# Altium schematic symbol library Resistors.SchLib: 18 symbols
Pins are listed as number, name and electrical type; pins without a type are passive.

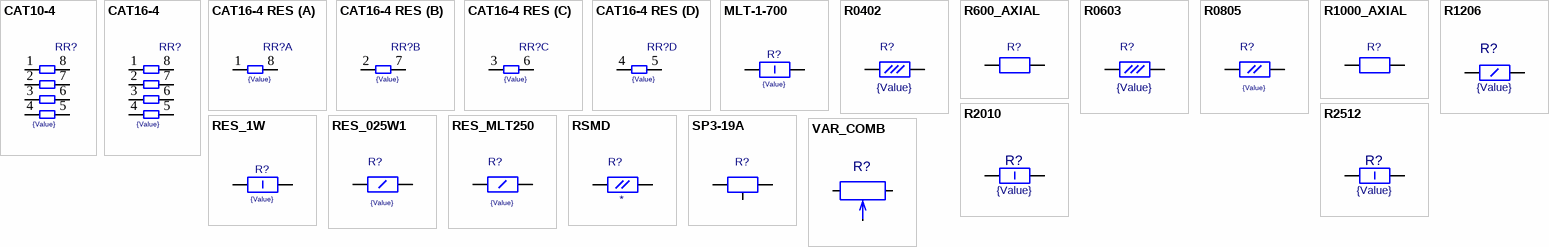
[diagram p0: symbols CAT10-4 to VAR_COMB]

## CAT10-4
designator RR?  value {Value}  (hidden comment: *)
CAT10-4
footprint CAT10-4
signal-integrity model Resistors array
footprint CAT10-4-V2
pins: 1, 2, 3, 4, 5, 6, 7, 8

## CAT16-4
designator RR?  value {Value}  (hidden comment: *)
CAT16-4
footprint CAT16-4
signal-integrity model Model Name (Model Description)
pins: 1, 2, 3, 4, 5, 6, 7, 8

## CAT16-4 RES
designator RR?  value {Value}  (hidden comment: *)
CAT16-4 RES
footprint CAT16-4
part A pins: 1, 8
part B pins: 2, 7
part C pins: 3, 6
part D pins: 4, 5

## MLT-1-700
designator R?  value {Value}  (hidden comment: *)
MLT-1-700
footprint MLT-1-700
pins: 1, 2

## R0402
designator R?  value {Value}  (hidden comment: *)
R0402
footprint R0402
signal-integrity model resistor (Model Description)
pins: 1, 2

## R600_AXIAL
designator R?  (value not drawn)
R600_AXIAL; Value: {Value}
footprint R600AXIAL
pins: 1, 2

## R0603
designator R?  value {Value}  (hidden comment: *)
R0603
footprint R0603
signal-integrity model resistor (Model Description)
footprint R0603L
footprint R0603L_V2
pins: 1, 2

## R0805
designator R?  value {Value}  (hidden comment: *)
R0805
footprint R0805
footprint R0805L
footprint R0805L_V2
pins: 1 Pin1, 2 Pin2

## R1000_AXIAL
designator R?  (value not drawn)
R1000_AXIAL; Value: {Value}
footprint R1000_AXIAL_3W
footprint R1000_AXIAL_Primary
pins: 1, 2

## R1206
designator R?  value {Value}  (hidden comment: *)
R1206
footprint R1206
pins: 1, 2

## R2010
designator R?  value {Value}  (hidden comment: *)
R2010
footprint R2010
pins: 1, 2

## R2512
designator R?  value {Value}  (hidden comment: *)
R2512
footprint R2512
pins: 1 Pin1, 2 Pin2

## RES_1W
designator R?  value {Value}  (hidden comment: *)
RES_1W
footprint R2512
pins: 1 Pin1, 2 Pin2

## RES_025W1
designator R?  value {Value}  (hidden comment: *)
RES_025W1
footprint R1206
pins: 1 Pin1, 2 Pin2

## RES_MLT250
designator R?  value {Value}  (hidden comment: *)
RES_MLT250
footprint RES400
pins: 1, 2

## RSMD
designator R?
R0805; Part Field 1: *; Part Field 2: *; Value: *
footprint R0805
footprint R0603
footprint R1206
footprint R0805L
footprint R0603L
footprint R0603L_V2
footprint R0805L_V2
pins: 1 Pin1, 2 Pin2
1 alternate drawing of the same symbol

## SP3-19A
designator R?  (value not drawn)
SP3-19A; PDIF_TY: 11107; Value: *
footprint SP3-19A
pins: 1 I/O1, 2 I/O2, 3 I/O3

## VAR_COMB
designator R?  (value not drawn)
VAR_COMB; Value: *
footprint VAR_RES_COMB
pins: 1, 2, 3, 4 hidden, 5 hidden, 6 hidden